# Altium schematic symbol library Power.SchLib: 22 symbols
Pins are listed as number, name and electrical type; pins without a type are passive.

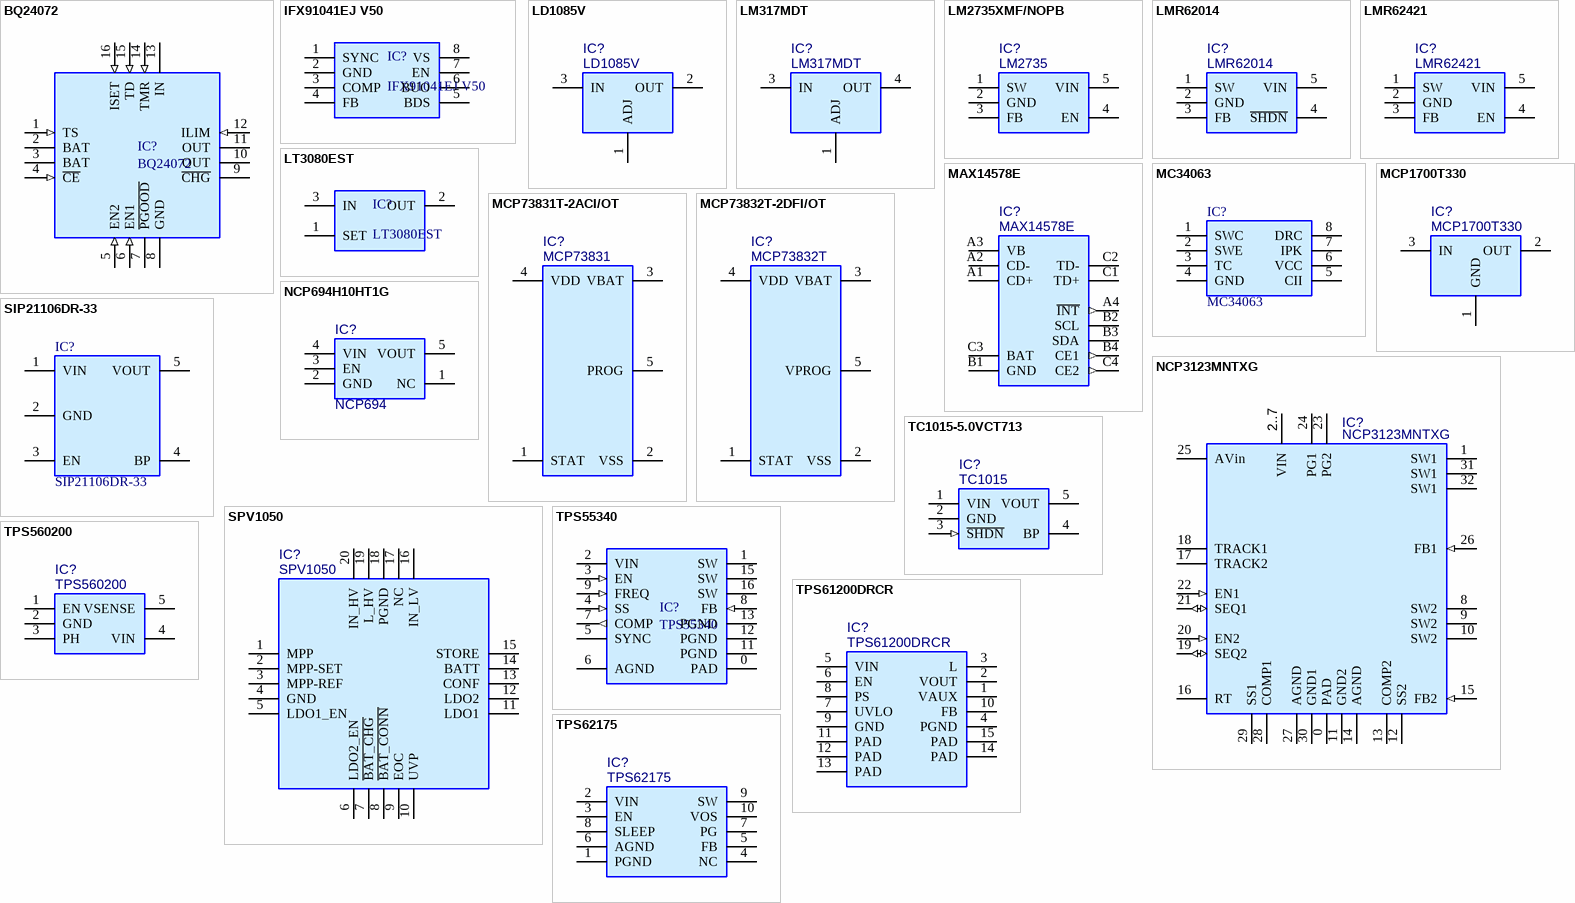
[diagram p0: symbols BQ24072 to TPS560200]

## BQ24072
designator IC?
Battery Management Li-Ion Battery Charger & Power-path Management IC; Manufacturer 1: TI; ComponentLink1Description: Datasheet; Created: 2014-01-23; Last Updated: 2014-01-23; Manufacturer Part Number 1: BQ24072; Package: QFN-16
footprint QFN16 3x3, 0.5P
pins: 1 TS (in) "External NTC input", 2 BAT "Charger Power Stage output and Bat voltage sense input", 3 BAT "Charger Power Stage output and Bat voltage sense input", 4 ~{CE} (in) "Charge Enable", 5 EN2 (in) "Input Current Limit Configuration", 6 EN1 (in) "Input Current Limit Configuration", 7 ~{PGOOD} (oc) "Power good status indication", 8 GND (power), 9 ~{CHG} (power) "Charging status indication", 10 OUT (power) "System supply output", 11 OUT (power) "System supply output", 12 ILIM (in) "Adjustable Current Limit Programming Input", 13 IN (power) "Input Power Connection", 14 TMR (in) "Timer Programming Input", 15 TD (in) "Termination Disable", 16 ISET (in) "Fast Charge Current Programming Input"

## IFX91041EJ V50
designator IC?
5V 1.8A Switch-Mode Regulator; Supplier 1: Mouser; Supplier Part Number 1: 726-IFX91041EJV50; ComponentLink1Description: Datasheet; Created: 2013-09-28; Last Updated: 2013-09-28
footprint PG-DSO-8-27
pins: 1 SYNC, 2 GND, 3 COMP, 4 FB, 5 BDS, 6 BUO, 7 EN, 8 VS, 9

## LD1085V
designator IC?
LDO 2.85-30V 3.0A Adj; Manufacturer 1: ST; ComponentLink1Description: Datasheet; ComponentLink1URL: http://www.st.com/web/en/resource/technical/document/datasheet/CD00001883.pdf; Created: 2013-11-19; Last Updated: 2013-11-19; Manufacturer Part Number 1: LD1085V; Package: TO-220; Supplier 1: Mouser; Supplier Part Number 1: 511-LD1085V
footprint TO-220-VERTICAL
pins: 1 ADJ, 2 OUT, 3 IN

## LM317MDT
designator IC?
Medium current 1.2 to 37 V adjustable voltage regulator; Manufacturer 1: ST; Manufacturer Part Number 1: LM317MDT-TR; ComponentLink1Description: Datasheet; Created: 2015-0612; Last Updated: 2015-0612; Supplier 1: Mouser; Supplier Part Number 1: 511-LM317MDT-TR
footprint DPAK
pins: 1 ADJ, 3 IN, 4 OUT

## LM2735XMF/NOPB
designator IC?, comment LM2735
24V 2.1A Switch-Mode Regulator; Manufacturer 1: TI; Manufacturer Part Number 1: LM2735XMF/NOPB; ComponentLink1Description: Datasheet; Created: 2015-04-23; Last Updated: 2015-04-23; Package: SOT-23; Supplier 1: Mouser; Supplier Part Number 1: 926-LM2735XMF/NOPB
footprint SOT95P237X112-5N
pins: 1 SW "Switch Node", 2 GND (power), 3 FB "Feedback", 4 EN "Enable", 5 VIN (power)

## LMR62014
designator IC?
20V 1.4A Switch-Mode Regulator; Manufacturer 1: TI; Manufacturer Part Number 1: LMR62014XMFE/NOPB; ComponentLink1Description: Datasheet; Created: 2014-02-17; Last Updated: 2014-02-17; Package: SOT-23; Supplier 1: Mouser; Supplier Part Number 1: 926-LMR62014XMFENOPB
footprint SOT23-5
pins: 1 SW "Switch Node", 2 GND (power), 3 FB "Feedback", 4 ~{SHDN} "Enable", 5 VIN (power)

## LMR62421
designator IC?
24V 2.1A Switch-Mode Regulator; Manufacturer 1: TI; ComponentLink1Description: Datasheet; Created: 2014-01-23; Last Updated: 2014-02-16; Manufacturer Part Number 1: LMR62421; Package: SOT-23
footprint SOT23-5
pins: 1 SW "Switch Node", 2 GND (power), 3 FB "Feedback", 4 EN "Enable", 5 VIN (power)

## LT3080EST
designator IC?
Linear Regulator 0-30V 1.1A; Supplier 1: Farnell; Supplier Part Number 1: 1663553; ComponentLink1Description: Datasheet; Created: 2013-09-28; Last Updated: 2013-09-28
footprint SOT223 (Small Outline Transitor)
pins: 1 SET, 2 OUT, 3 IN, 4 OUT

## MAX14578E
designator IC?
USB Battery Charger Detector; Manufacturer 1: Maxim; ComponentLink1Description: Datasheet; Created: 2014-01-27; Last Updated: 2014-01-27; Manufacturer Part Number 1: MAX14578E; Package: WLP-12
pins: A1 CD+, A2 CD-, A3 VB, A4 ~{INT} (out), B1 GND (power), B2 SCL, B3 SDA, B4 CE1 (out), C1 TD+, C2 TD-, C3 BAT (power), C4 CE2 (out)

## MC34063
designator IC?
1.5A Swich-Mode Regulator; Manufacturer 1: ST; Manufacturer Part Number 1: MC34063EB; ComponentLink1Description: Datasheet; ComponentLink1URL: http://www.st.com/internet/com/TECHNICAL_RESOURCES/TECHNICAL_LITERATURE/DATASHEET/CD00001232.pdf; Supplier 1: Mouser; Supplier Part Number 1: 511-MC34063EBD-TR; Created: 2013-09-28; Last Updated: 2013-09-28; Package: SO-8
footprint SOIC8 (SOIC, 8-Leads, Body 5.3x5.4mm (max), Pitch 1.27mm, IPC Medium Density)
pins: 1 SWC, 2 SWE, 3 TC, 4 GND, 5 CII, 6 VCC, 7 IPK, 8 DRC

## MCP1700T330
designator IC?
LDO 3.3V 250mA; Supplier 1: Mouser; Supplier Part Number 1: 579-MCP1700T3302E/TT; ComponentLink1Description: Datasheet; Created: 2013-09-28; Last Updated: 2014-02-18
footprint SOT23 (SOT23, 3-Leads, Body 2.9x1.3mm, Pitch 0.95mm, Lead Span 2.3mm - Reverse Pinning, IPC Low Density)
pins: 1 GND, 2 OUT, 3 IN

## MCP73831T-2ACI/OT
designator IC?, comment MCP73831
Miniature Single-Cell, Fully Integrated Li-Ion,  Li-Polymer Charge Management Controllers; Manufacturer 1: Microchip; Manufacturer Part Number 1: MCP73831T-2ACI/OT; ComponentLink1Description: Datasheet; Created: 2015-04-08; Last Updated: 2015-04-27; Package: SOT23-5; Supplier 1: Mouser; Supplier Part Number 1: 579-MCP73831T-2ACIOT
footprint SOT95P237X112-5N
pins: 1 STAT, 2 VSS, 3 VBAT, 4 VDD, 5 PROG

## MCP73832T-2DFI/OT
designator IC?, comment MCP73832T
Battery Management 4.2V Li-Ion/Li-Poly Chrg mgnt controller; Manufacturer 1: Microchip; Manufacturer Part Number 1: MCP73832T-2DFI/OT; Supplier 1: Mouser; Supplier Part Number 1: 579-MCP73832T2DFI/OT; ComponentLink1Description: Datasheet; Created: 2014-07-01; Last Updated: 2014-07-01; Package: SOT-23-5
footprint SOT23-5
pins: 1 STAT, 2 VSS (power), 3 VBAT (power), 4 VDD (power), 5 VPROG (power)

## NCP694H10HT1G
designator IC?, comment NCP694
1.0V 1A CMOS Low-Dropout  Voltage Regulator; Manufacturer 1: ON; Manufacturer Part Number 1: NCP694H10HT1G; Supplier 1: Mouser; Supplier Part Number 1: 863-NCP694H10HT1G; ComponentLink1Description: Datasheet; Created: 2013-09-28; Last Updated: 2013-09-28; Package: SOT-89-5
footprint SOT89-5
pins: 1 NC, 2 GND, 3 EN, 4 VIN (power), 5 VOUT

## NCP3123MNTXG
designator IC?
Dual 3.0 A, Step-Down  DC/DC Switching Regulator; Manufacturer 1: ON Semiconductor; Output Voltage Min: 4.5V; ComponentLink1Description: Datasheet; ComponentLink1URL: http://www.mouser.com/ds/2/308/NCP3123-D-85014.pdf; Created: 2013-12-04; Last Updated: 2014-06-20; Manufacturer Part Number 1: NCP3123MNTXG; Package: QFN-32; Supplier 1: Mouser; Supplier Part Number 1: 863-NCP3123MNTXG
footprint QFN32 5x5, 0.5P
pins: 0 PAD (power), 1 SW1 (oc), 2 VIN (power), 3 VIN (power), 4 VIN (power), 5 VIN (power), 6 VIN (power), 7 VIN (power), 8 SW2 (oc), 9 SW2 (oc), 10 SW2 (oc), 11 GND2 (power), 12 SS2, 13 COMP2, 14 AGND (power), 15 FB2 (in), 16 RT, 17 TRACK2, 18 TRACK1, 19 SEQ2 (io), 20 EN2 (in), 21 SEQ1 (io), 22 EN1 (in), 23 PG2 (oc), 24 PG1 (oc), 25 AVin, 26 FB1 (in), 27 AGND (power), 28 COMP1, 29 SS1, 30 GND1 (power), 31 SW1 (oc), 32 SW1 (oc)
text: 2..7

## SIP21106DR-33
designator IC?
LDO 3.3V 150mA; Supplier 1: Mouser; Supplier Part Number 1: 781-SIP21106DR33E3; ComponentLink1Description: Datasheet; Created: 2013-09-28; Last Updated: 2013-09-28
footprint SOT353 (SOT23, 5-Leads, Body 2.2x2.2mm (max), Pitch 0.65mm, IPC Medium Density)
pins: 1 VIN, 2 GND, 3 EN, 4 BP, 5 VOUT

## SPV1050
designator IC?
Ultralow power energy harvester and battery charger; Manufacturer 1: ST; ComponentLink1Description: Datasheet; Created: 2015-03-16; Last Updated: 2015-03-16; Manufacturer Part Number 1: SPV1050; Package: VFQFPN40X300X300X20_HS-20N
footprint VFQFPN40X300X300X20_HS-20N (QFN, 20-Leads, Body 3,00x3,00mm, Pitch 0,40mm, Thermal Pad 1,60x1,60mm, IPC Medium Density)
pins: 1 MPP, 2 MPP-SET, 3 MPP-REF, 4 GND, 5 LDO1_EN, 6 LDO2_EN, 7 ~{BAT_CHG}, 8 ~{BAT_CONN}, 9 EOC, 10 UVP, 11 LDO1, 12 LDO2, 13 CONF, 14 BATT, 15 STORE, 16 IN_LV, 17 NC, 18 PGND, 19 L_HV, 20 IN_HV

## TC1015-5.0VCT713
designator IC?, comment TC1015
6V in 5V out low dropout voltage regulator; Manufacturer 1: Microchip; Manufacturer Part Number 1: TC1015-5.0VCT713; ComponentLink1Description: Datasheet; Created: 2014-02-07; Last Updated: 2014-02-07; Package: SOT-23A-5; Supplier 1: Mouser; Supplier Part Number 1: 579-TC1015-5.0VCT713
footprint SOT23-5
pins: 1 VIN (power), 2 GND (power), 3 ~{SHDN} (in), 4 BP "Bypass", 5 VOUT (power)

## TPS55340
designator IC?
2V9 to 32V input 5A Switch Mode Regulator; Manufacturer 1: TI; ComponentLink1Description: Datasheet; Created: 2014-01-23; Last Updated: 2014-01-23; Manufacturer Part Number 1: TPS55340; Package: QFN-16
footprint QFN16 3x3, 0.5P
pins: 0 PAD, 1 SW "Switch Node", 2 VIN (power), 3 EN (in), 4 SS (in), 5 SYNC, 6 AGND (power), 7 COMP (out), 8 FB (in), 9 FREQ (in), 11 PGND (power), 12 PGND (power), 13 PGND (power), 15 SW, 16 SW

## TPS61200DRCR
designator IC?
Low Input Voltage Synchronous Boost Converter  With 1.3-A Switches; Manufacturer 1: TI; ComponentLink1Description: Datasheet; Created: 2015-04-10; Last Updated: 2015-04-28; Manufacturer Part Number 1: TPS61200DRCR; Package: SON50P285X285X60_HS-10N; Supplier 1: Mouser; Supplier Part Number 1: 595-TPS61200DRCR
footprint SON50P285X285X60_HS-10N
pins: 1 VAUX, 2 VOUT, 3 L, 4 PGND, 5 VIN, 6 EN, 7 UVLO, 8 PS, 9 GND, 10 FB, 11 PAD, 12 PAD, 13 PAD, 14 PAD, 15 PAD

## TPS62175
designator IC?
28V, 0.5A Step-Down Converter with Sleep Mode; Manufacturer 1: TI; Manufacturer Part Number 1: TPS62175DQCR; ComponentLink1Description: Datasheet; Created: 2014-01-23; Last Updated: 2014-02-07; Package: WSON-10; Supplier 1: Mouser; Supplier Part Number 1: 595-TPS62175DQCR
footprint DQC-10 (R-PWSON-N10)
pins: 1 PGND (power), 2 VIN (power), 3 EN, 4 NC, 5 FB, 6 AGND (power), 7 PG, 8 SLEEP, 9 SW, 10 VOS, PAD GND hidden to GND

## TPS560200
designator IC?
4.5-V to 17-V Input, 500-mA Synchronous Step-Down SWIFT™ Converter With  Advanced Eco-Mode™; Manufacturer 1: TI; ComponentLink1Description: Datasheet; Created: 2015-04-24; Last Updated: 2015-04-24; Manufacturer Part Number 1: TPS560200; Package: SOT-23; Supplier 1: Mouser; Supplier Part Number 1: 595-TPS560200DBVT
footprint SOT95P237X112-5N
pins: 1 EN, 2 GND (power), 3 PH, 4 VIN, 5 VSENSE (power)